# Altium footprint library HUD-LED-V3.2.PcbLib: 30 footprints (part 1 of 2)
Each footprint in its own frame and in the unit in brackets; x right, y up, seen from the top. Pads: shape width x height; smd on the part's side, far side on the other; paste and mask are expansions set on the pad; w line width, h text height; cw(c..) or ccw(c..) is an arc to the next point about the centre after c.
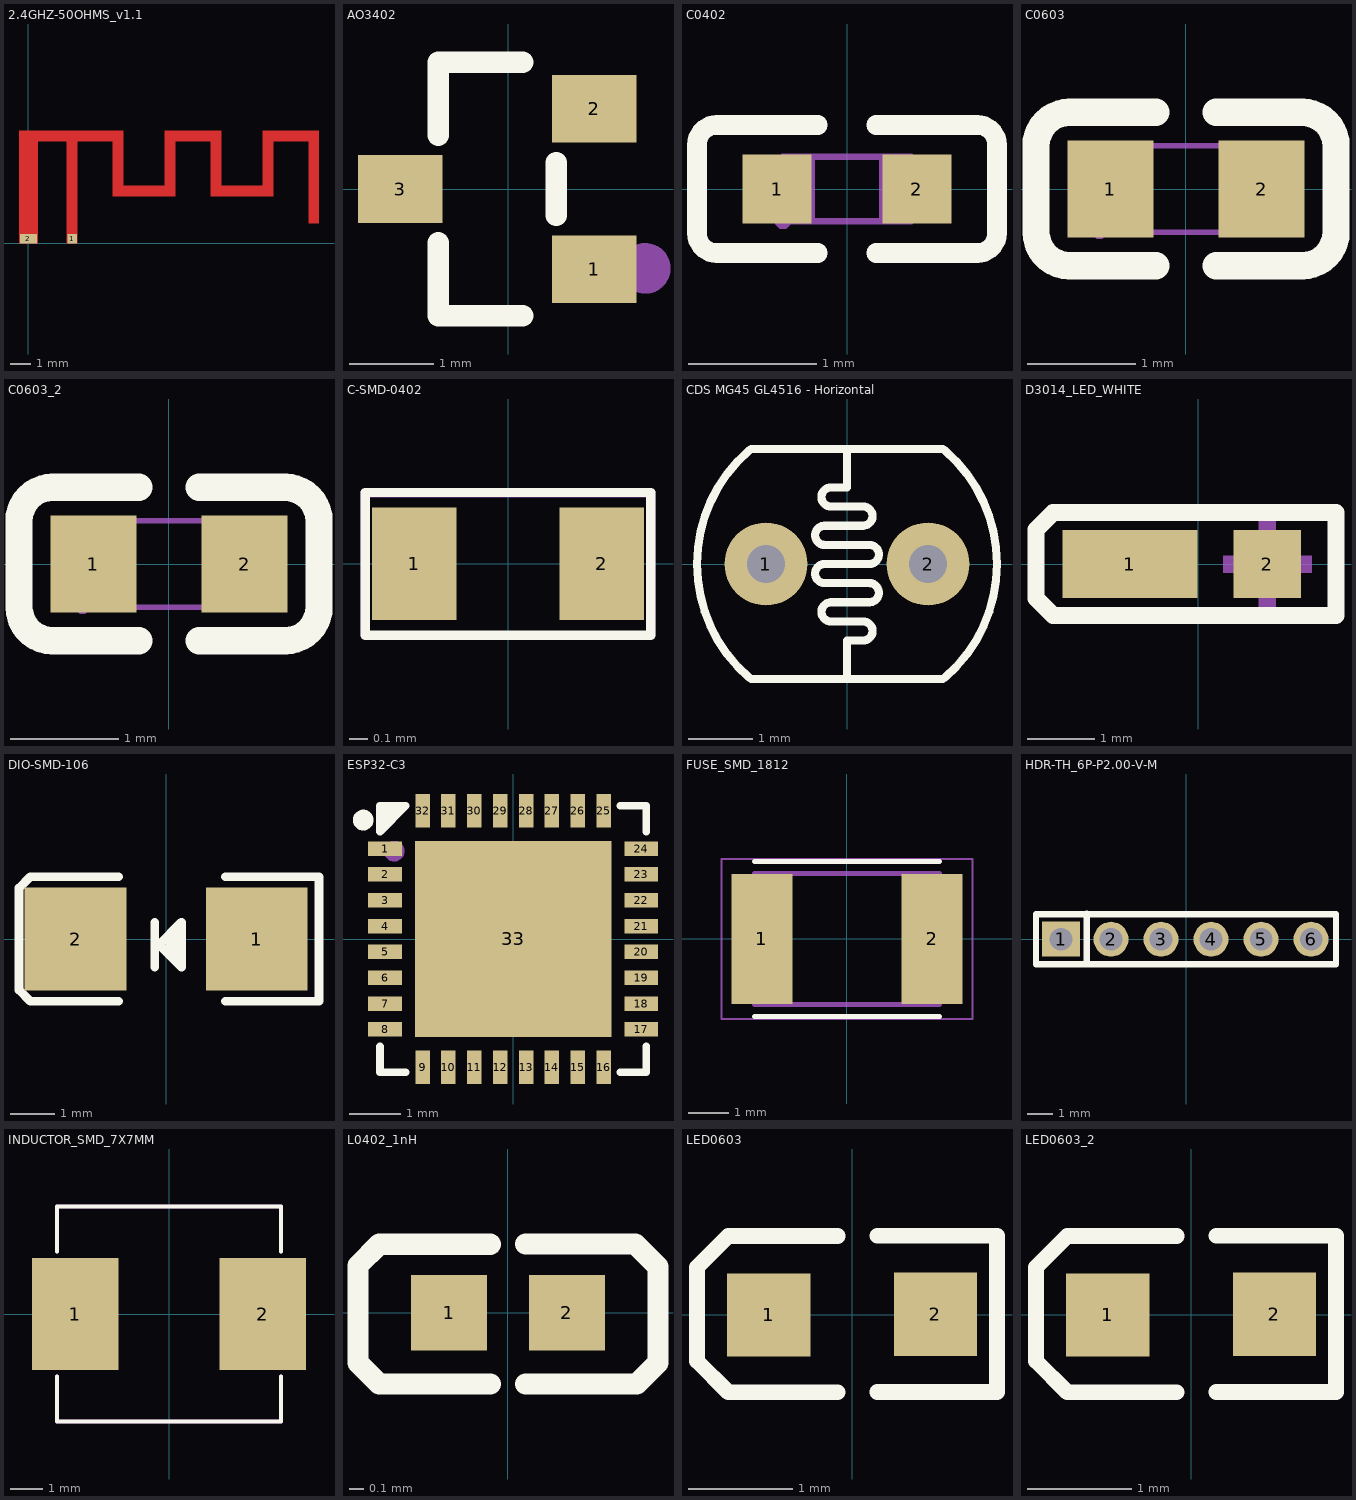
[diagram p0: the footprints below, top view; thin cyan lines are the x and y axes]

## 2.4GHZ-50OHMS_v1.1 [mm]
pads (2):
  rect 0.45x0.45 smd: 1(2.103,0.229)
  rect 0.8x0.45 smd: 2(0,0.229)
Top Layer:
  region: 13.947,0.963 13.447,0.963 13.447,4.903 11.747,4.903 11.747,2.263 8.747,2.263 8.747,4.903 7.047,4.903 7.047,2.263 4.047,2.263 4.047,4.903 2.347,4.903 2.347,0.003 1.847,0.003 1.847,4.903 0.447,4.903 0.447,0.003 -0.453,0.003 -0.453,5.403 4.547,5.403 4.547,2.763 6.547,2.763 6.547,5.403 9.247,5.403 9.247,2.763 11.247,2.763 11.247,5.403 13.947,5.403

## AO3402 [mm]
pads (3):
  rect 1x0.8 smd paste+0 mask+0.051: 1(1.024,-0.95) 2(1.024,0.95) 3(-1.276,0)
Top Overlay:
  lines w0.254: -0.826,-0.636 -0.826,-1.5 0.174,-1.5 ; -0.826,0.636 -0.826,1.5 0.174,1.5 ; 0.574,-0.314 0.574,0.314
Mechanical 15:
  circle w0.3: c1.626,-0.94 r0.15
3D body "SOT23-3.step": height 1.1, standoff 0, extent -1.377,-1.499 1.123,1.499

## C0402 [mm]
pads (2):
  rect 0.54x0.54 smd paste-100 mask+0.051: 1(-0.545,0) 2(0.545,0)
Top Overlay:
  lines w0.152: -0.226,-0.499 -1.016,-0.499 cw(c-1.016,-0.346) -1.169,-0.346 -1.169,0.346 cw(c-1.016,0.346) -1.016,0.499 -0.226,0.499 ; 0.226,-0.499 1.016,-0.499 ccw(c1.016,-0.346) 1.169,-0.346 1.169,0.346 ccw(c1.016,0.346) 1.016,0.499 0.226,0.499
Top Paste:
  region: 0.78,0.225 0.78,-0.225 0.73,-0.275 0.25,-0.275 0.18,-0.225 0.18,0.225 0.25,0.275 0.73,0.275
  region: -0.18,0.225 -0.18,-0.225 -0.25,-0.275 -0.73,-0.275 -0.78,-0.225 -0.78,0.225 -0.73,0.275 -0.25,0.275
Mechanical 15:
  region: 0.5,-0.25 0.5,0.25 0.25,0.25 0.25,-0.25
  region: -0.5,-0.25 -0.5,0.25 -0.25,0.25 -0.25,-0.25
  region: -0.44,-0.25 -0.44,-0.275 -0.475,-0.31 -0.525,-0.31 -0.56,-0.275 -0.56,-0.25 -0.56,-0.225 -0.525,-0.19 -0.475,-0.19 -0.44,-0.225
  lines w0.051: -0.5,-0.25 0.5,-0.25 0.5,0.25 -0.5,0.25 -0.5,-0.25
3D body "C0402.step": height 0.36, standoff 0, extent -0.5,-0.25 0.5,0.25

## C0603 [mm]
pads (2):
  rect 0.8x0.9 smd: 1(-0.7,0) 2(0.7,0)
Top Overlay:
  lines w0.254: -1.08,-0.71 -0.28,-0.71 ; -1.08,0.71 -0.28,0.71 ; -1.08,-0.71 cw(c-1.08,-0.4) -1.39,-0.4 -1.39,0.4 cw(c-1.08,0.4) -1.08,0.71 ; 0.28,-0.71 1.08,-0.71 ccw(c1.08,-0.4) 1.39,-0.4 1.39,0.4 ccw(c1.08,0.4) 1.08,0.71 0.28,0.71
Mechanical 15:
  region: -0.8,-0.4 -0.8,0.4 -0.5,0.4 -0.5,-0.4
  region: 0.8,-0.4 0.8,0.4 0.5,0.4 0.5,-0.4
  region: -0.74,-0.4 -0.74,-0.425 -0.775,-0.46 -0.825,-0.46 -0.86,-0.425 -0.86,-0.4 -0.86,-0.375 -0.825,-0.34 -0.775,-0.34 -0.74,-0.375
  lines w0.051: -0.8,-0.4 -0.8,0.4 0.8,0.4 0.8,-0.4 -0.8,-0.4
3D body "C0603.step": height 0.4, standoff 0, extent -0.8,-0.4 0.8,0.4

## C0603_2 [mm]
pads (2):
  rect 0.8x0.9 smd: 1(-0.7,0) 2(0.7,0)
Top Overlay:
  lines w0.254: -1.08,-0.71 -0.28,-0.71 ; -1.08,0.71 -0.28,0.71 ; -1.08,-0.71 cw(c-1.08,-0.4) -1.39,-0.4 -1.39,0.4 cw(c-1.08,0.4) -1.08,0.71 ; 0.28,-0.71 1.08,-0.71 ccw(c1.08,-0.4) 1.39,-0.4 1.39,0.4 ccw(c1.08,0.4) 1.08,0.71 0.28,0.71
Mechanical 15:
  region: -0.74,-0.4 -0.74,-0.425 -0.775,-0.46 -0.825,-0.46 -0.86,-0.425 -0.86,-0.4 -0.86,-0.375 -0.825,-0.34 -0.775,-0.34 -0.74,-0.375
  region: 0.8,-0.4 0.8,0.4 0.5,0.4 0.5,-0.4
  region: -0.8,-0.4 -0.8,0.4 -0.5,0.4 -0.5,-0.4
  lines w0.051: -0.8,-0.4 0.8,-0.4 0.8,0.4 -0.8,0.4 -0.8,-0.4
3D body "C0603.step": height 0.4, standoff 0, extent -0.8,-0.4 0.8,0.4

## C-SMD-0402 [mm]
pads (2):
  rect 0.45x0.6 smd: 1(-0.5,0) 2(0.5,0)
Top Overlay:
  lines w0.05: -0.762,-0.381 -0.762,0.381 0,0.381 0.762,0.381 0.762,-0.381 -0.762,-0.381
Mechanical 15:
  lines w0.05: -0.762,-0.381 -0.762,0.381 0.762,0.381 0.762,-0.381 -0.762,-0.381
3D body "C0402.stp": height 0.52, standoff 0.02, extent -0.5,-0.25 0.5,0.25

## CDS MG45 GL4516 - Horizontal [mm]
pads (2):
  round 1.3 hole 0.6 mask+0.102: 1(-1.27,0) 2(1.27,0)
Top Overlay:
  lines w0.127: -1.533,-1.781 cw(c0,0) -1.529,1.784 ; -1.5,-1.8 1.5,-1.8 ; -1.5,1.8 1.5,1.8 ; 0,-1.8 0,-1.2 0.25,-1.2 ccw(c0.25,-1.05) 0.25,-0.9 -0.25,-0.9 cw(c-0.25,-0.75) -0.25,-0.6 0.35,-0.6 ccw(c0.35,-0.45) 0.35,-0.3 -0.35,-0.3 cw(c-0.35,-0.15) -0.35,0 0,0 0.35,0 ccw(c0.35,0.15) 0.35,0.3 -0.35,0.3 cw(c-0.35,0.45) -0.35,0.6 0.25,0.6 ccw(c0.25,0.75) 0.25,0.9 -0.25,0.9 cw(c-0.25,1.05) -0.25,1.2 0,1.2 0,1.8 ; 1.529,1.784 cw(c0,0) 1.533,-1.781
3D body "LDR_2.54.step": height 4, standoff -5.5, extent -2.318,-1.8 2.318,1.8

## D3014_LED_WHITE [mm]
pads (2):
  rect 2x1 smd paste+0 mask+0.051: 1(-1.015,0)
  rect 1x1 smd paste+0 mask+0.051: 2(1.015,0)
Top Overlay:
  lines w0.254: -2.405,0.508 -2.151,0.762 ; -2.404,0.508 -2.404,-0.508 -2.15,-0.762 2.036,-0.762 2.036,0.762 -2.15,0.762
Mechanical 15:
  region: 0.366,-0.13 0.366,0.12 1.676,0.12 1.676,-0.13
  region: 1.145,-0.649 0.895,-0.649 0.895,0.661 1.145,0.661
  region: -1.664,-0.13 -1.664,0.12 -0.354,0.12 -0.354,-0.13
3D body "LED-3014.step": height 0.65, standoff -0.01, extent -1.739,-0.725 1.281,0.675

## DIO-SMD-106 [mil]
pads (2):
  rect 90x90.55 smd: 1(80,0) 2(-80,0)
Top Overlay:
  lines w7.87: -42.24,-55 -120,-55 -130,-45 -130,45 -120,55 -42.24,55 ; -10.12,-24.68 -10.12,14.69 ; 3.66,-10.91 3.66,0.91 ; 9.57,-16.81 9.57,6.81 ; 52.24,-55 135,-55 135,55 52.24,55 ; -6.18,-5 13.5,14.69 13.5,-24.68 -6.18,-5
Mechanical 1:
  lines w3.94: -2.87,0 12.87,0 ; 5,-7.87 5,7.87
3D body "User Library-DO-214Aa SMA.step": height 94.69, standoff 0, extent -98.7,-50.27 106.03,52.09

## ESP32-C3 [mm]
pads (33):
  rect 0.65x0.28 smd paste-100 mask+0.051: 1(-2.478,1.75) 2(-2.478,1.25) 3(-2.478,0.75) 4(-2.478,0.25) 5(-2.478,-0.25) 6(-2.478,-0.75) 7(-2.478,-1.25) 8(-2.478,-1.75) 17(2.478,-1.75) 18(2.478,-1.25) 19(2.478,-0.75) 20(2.478,-0.25) 21(2.478,0.25) 22(2.478,0.75) 23(2.478,1.25) 24(2.478,1.75)
  rect 0.28x0.65 smd paste-100 mask+0.051: 9(-1.75,-2.478) 10(-1.25,-2.478) 11(-0.75,-2.478) 12(-0.25,-2.478) 13(0.25,-2.478) 14(0.75,-2.478) 15(1.25,-2.478) 16(1.75,-2.478) 25(1.75,2.478) 26(1.25,2.478) 27(0.75,2.478) 28(0.25,2.478) 29(-0.25,2.478) 30(-0.75,2.478) 31(-1.25,2.478) 32(-1.75,2.478)
  rect 3.8x3.8 smd paste-100 mask+0.051: 33(0,0)
Top Overlay:
  circle w0.2: c-2.9,2.3 r0.1
  region: -2.1,2.576 -2.1,2.557 -2.576,2.08 -2.576,2.5
  lines w0.152: -2.576,-2.08 -2.576,-2.576 -2.08,-2.576 ; 2.08,-2.576 2.576,-2.576 2.576,-2.08 ; 2.08,2.576 2.576,2.576 2.576,2.08 ; -2.576,2.08 -2.08,2.576 -2.576,2.576 -2.576,2.08
Top Paste:
  region: -1.52,1.52 1.52,1.52 1.52,-1.52 -1.52,-1.52
  region: -2.802,1.89 -2.152,1.89 -2.152,1.61 -2.802,1.61
  region: -2.802,1.39 -2.152,1.39 -2.152,1.11 -2.802,1.11
  region: -2.802,0.89 -2.152,0.89 -2.152,0.61 -2.802,0.61
  region: -2.802,0.39 -2.152,0.39 -2.152,0.11 -2.802,0.11
  region: -2.802,-0.11 -2.152,-0.11 -2.152,-0.39 -2.802,-0.39
  region: -2.802,-0.61 -2.152,-0.61 -2.152,-0.89 -2.802,-0.89
  region: -2.802,-1.11 -2.152,-1.11 -2.152,-1.39 -2.802,-1.39
  region: -2.802,-1.61 -2.152,-1.61 -2.152,-1.89 -2.802,-1.89
  region: -1.89,-2.152 -1.61,-2.152 -1.61,-2.802 -1.89,-2.802
  region: -1.39,-2.152 -1.11,-2.152 -1.11,-2.802 -1.39,-2.802
  region: -0.89,-2.152 -0.61,-2.152 -0.61,-2.802 -0.89,-2.802
  region: -0.39,-2.152 -0.11,-2.152 -0.11,-2.802 -0.39,-2.802
  region: 0.11,-2.152 0.39,-2.152 0.39,-2.802 0.11,-2.802
  region: 0.61,-2.152 0.89,-2.152 0.89,-2.802 0.61,-2.802
  region: 1.11,-2.152 1.39,-2.152 1.39,-2.802 1.11,-2.802
  region: 1.61,-2.152 1.89,-2.152 1.89,-2.802 1.61,-2.802
  region: 2.152,-1.61 2.802,-1.61 2.802,-1.89 2.152,-1.89
  region: 2.152,-1.11 2.802,-1.11 2.802,-1.39 2.152,-1.39
  region: 2.152,-0.61 2.802,-0.61 2.802,-0.89 2.152,-0.89
  region: 2.152,-0.11 2.802,-0.11 2.802,-0.39 2.152,-0.39
  region: 2.152,0.39 2.802,0.39 2.802,0.11 2.152,0.11
  region: 2.152,0.89 2.802,0.89 2.802,0.61 2.152,0.61
  region: 2.152,1.39 2.802,1.39 2.802,1.11 2.152,1.11
  region: 2.152,1.89 2.802,1.89 2.802,1.61 2.152,1.61
  region: 1.61,2.802 1.89,2.802 1.89,2.152 1.61,2.152
  region: 1.11,2.802 1.39,2.802 1.39,2.152 1.11,2.152
  region: 0.61,2.802 0.89,2.802 0.89,2.152 0.61,2.152
  region: 0.11,2.802 0.39,2.802 0.39,2.152 0.11,2.152
  region: -0.39,2.802 -0.11,2.802 -0.11,2.152 -0.39,2.152
  region: -0.89,2.802 -0.61,2.802 -0.61,2.152 -0.89,2.152
  region: -1.39,2.802 -1.11,2.802 -1.11,2.152 -1.39,2.152
  region: -1.89,2.802 -1.61,2.802 -1.61,2.152 -1.89,2.152
Mechanical 15:
  circle w0.2: c-2.3,1.7 r0.1
3D body "ESP32-C3.STEP": height 0.9, standoff 0, extent -2.5,-2.5 2.5,2.5

## FUSE_SMD_1812 [mm]
pads (2):
  rect 1.5x3.2 smd: 1(-2.1,0) 2(2.1,0)
Top Overlay:
  lines w0.127: -2.275,-1.913 2.275,-1.913 ; -2.275,1.913 2.275,1.913
Mechanical 13:
  lines w0.127: -2.275,-1.62 2.275,-1.62 2.275,1.62 -2.275,1.62 -2.275,-1.62
Mechanical 15:
  lines w0.05: -3.1,-1.977 -3.1,1.977 3.1,1.977 3.1,-1.977 -3.1,-1.977
3D body "step_temp.STEP": height 0.85, standoff 0, extent -2.275,-1.62 2.275,1.62

## HDR-TH_6P-P2.00-V-M [mm]
pads (6):
  rect 1.524x1.4 hole 0.9 paste-2539.97 mask+0.051: 1(-5,-0.008)
  round 1.4 hole 0.9 paste-2539.97 mask+0.051: 2(-3,-0.008) 3(-1,-0.008) 4(1,-0.008) 5(3,-0.008) 6(5,-0.008)
Top Overlay:
  lines w0.254: -3.969,-0.897 -3.969,1.008 ; -6,-1.008 6,-1.008 6,0.992 -6,0.992 -6,-1.008

## INDUCTOR_SMD_7X7MM [mm]
pads (2):
  rect 2.7x3.505 smd: 1(-2.929,0) 2(2.929,0)
Top Overlay:
  lines w0.127: -3.5,-1.95 -3.5,-3.35 3.5,-3.35 3.5,-1.95 ; -3.5,1.95 -3.5,3.35 3.5,3.35 3.5,1.95
Mechanical 13:
  lines w0.127: -3.5,-1.95 -3.5,-3.35 3.5,-3.35 3.5,-1.95 ; -3.5,1.95 -3.5,3.35 3.5,3.35 3.5,1.95
3D body "Inductor_SMD_AMPLF_0630.STEP": height 3.01, standoff 0, extent -3.65,-3.35 3.65,3.35

## L0402_1nH [mm]
pads (2):
  rect 0.54x0.54 smd paste+0 mask+0.051: 1(-0.42,0) 2(0.42,0)
Top Overlay:
  lines w0.152: -0.127,-0.508 -0.917,-0.508 -1.069,-0.356 -1.069,0.337 -0.917,0.489 -0.127,0.489 ; 0.127,-0.508 0.917,-0.508 1.069,-0.356 1.069,0.328 0.907,0.49 0.127,0.49

## LED0603 [mm]
pads (2):
  rect 0.8x0.8 smd paste+0 mask+0.051: 1(-0.799,-0.004) 2(0.799,0.004)
Top Overlay:
  lines w0.15: -0.14,-0.746 -1.19,-0.746 -1.49,-0.446 -1.49,-0.346 -1.49,0.354 -1.49,0.454 -1.19,0.754 -0.14,0.754 ; 0.24,-0.744 1.39,-0.744 ; 0.24,0.757 1.39,0.757 1.39,-0.723
Mechanical 15:
  region: -1.07,0.061 -0.53,0.061 -0.53,-0.069 -1.07,-0.069
  region: 0.735,-0.267 0.735,0.273 0.865,0.273 0.865,-0.267
  region: 0.529,0.068 1.069,0.068 1.069,-0.062 0.529,-0.062
3D body "LED0603.STEP": height 0.7, standoff 0, extent -0.8,-0.419 0.8,0.381

## LED0603_2 [mm]
pads (2):
  rect 0.8x0.8 smd paste+0 mask+0.051: 1(-0.799,-0.004) 2(0.799,0.004)
Top Overlay:
  lines w0.15: -0.14,-0.746 -1.19,-0.746 -1.49,-0.446 -1.49,-0.346 -1.49,0.354 -1.49,0.454 -1.19,0.754 -0.14,0.754 ; 0.24,-0.744 1.39,-0.744 ; 0.24,0.757 1.39,0.757 1.39,-0.723
Mechanical 15:
  region: -1.07,0.061 -0.53,0.061 -0.53,-0.069 -1.07,-0.069
  region: 0.735,-0.267 0.735,0.273 0.865,0.273 0.865,-0.267
  region: 0.529,0.068 1.069,0.068 1.069,-0.062 0.529,-0.062
3D body "LED0603.STEP": height 0.7, standoff 0, extent -0.8,-0.419 0.8,0.381